# Altium footprint library AD-FMComms3_revA.PcbLib: 27 footprints (part 2 of 2)
Each footprint in its own frame and in the unit in brackets; x right, y up, seen from the top. Pads: shape width x height; smd on the part's side, far side on the other; paste and mask are expansions set on the pad; w line width, h text height; cw(c..) or ccw(c..) is an arc to the next point about the centre after c.
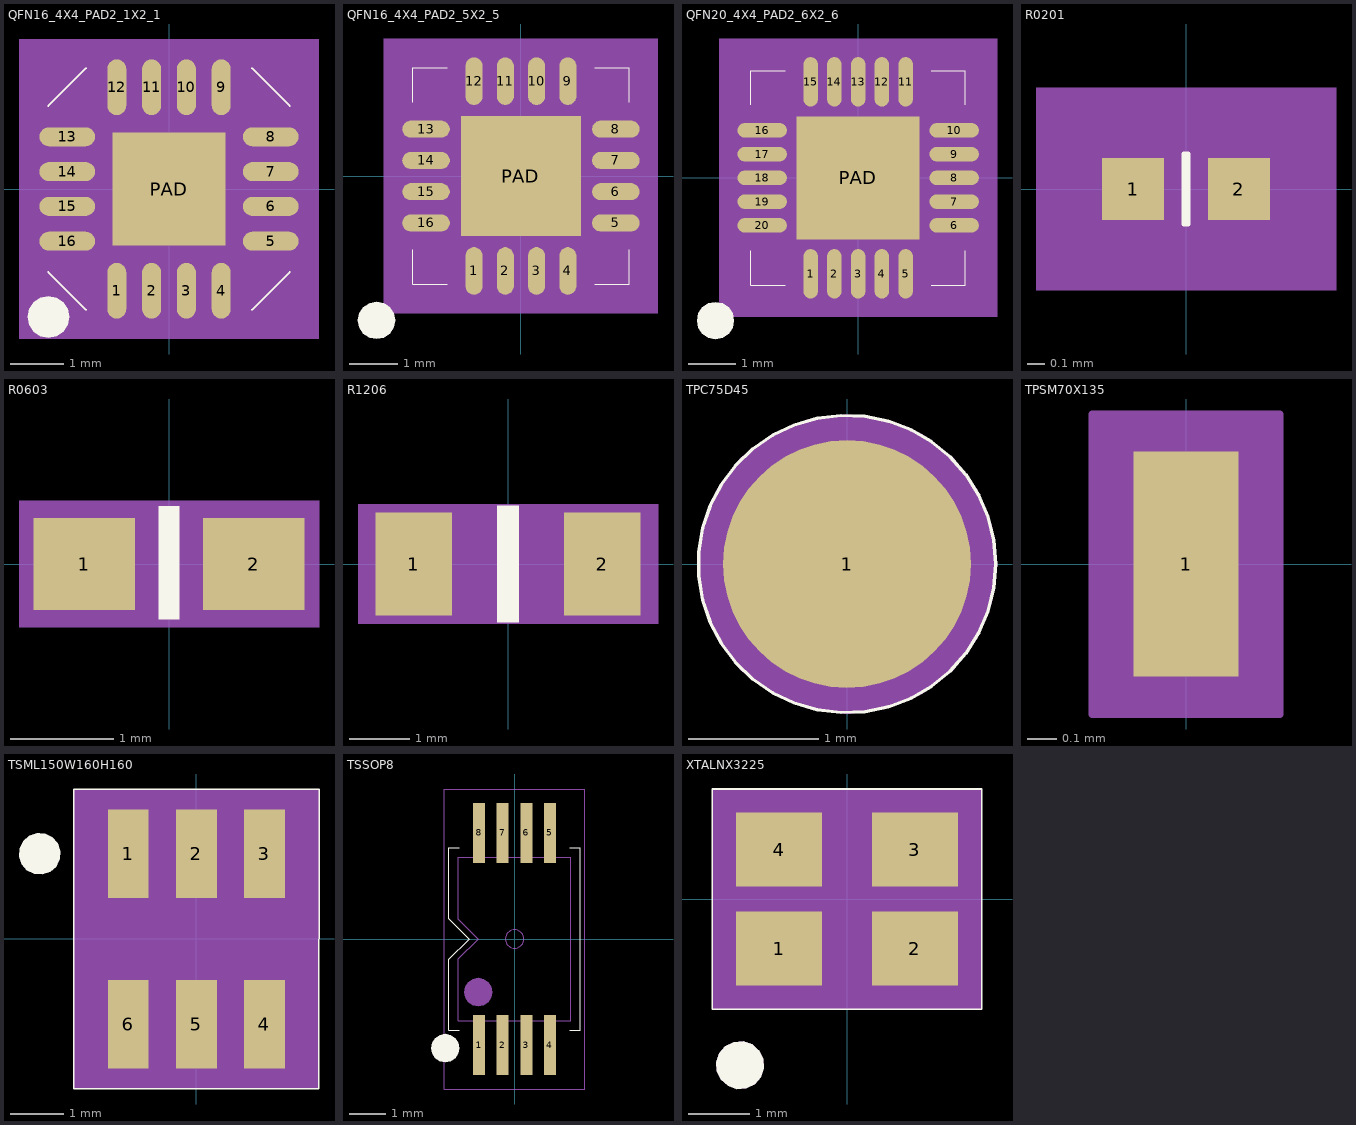
[diagram p1: the footprints below, top view; thin cyan lines are the x and y axes]

## QFN16_4X4_PAD2_1X2_1 [mil] "QFN16_4X4_PAD2_1X2_1"
pads (17):
  oval 14x41 smd: 1(-38.39,-74.8) 2(-12.8,-74.8) 3(12.8,-74.8) 4(38.39,-74.8) 9(38.39,74.8) 10(12.8,74.8) 11(-12.8,74.8) 12(-38.39,74.8)
  oval 41x14 smd: 5(74.8,-38.39) 6(74.8,-12.8) 7(74.8,12.8) 8(74.8,38.39) 13(-74.8,38.39) 14(-74.8,12.8) 15(-74.8,-12.8) 16(-74.8,-38.39)
  rect 83x83 smd: PAD(0,0)
Top Overlay:
  dashed: -88.74,-109.3 -82.89,-108.14 -77.93,-104.83 -74.62,-99.87 -73.45,-94.02 -74.62,-88.17 -75.73,-86.5 -77.93,-83.21 -82.89,-79.89 -88.74,-78.73 -94.59,-79.89 -99.55,-83.21 -101.75,-86.5 -102.86,-88.17 -104.03,-94.02 -102.86,-99.87 -99.55,-104.83 -94.59,-108.14
  lines w1: -88.74,-60.39 -88.74,-61.18 -61.18,-88.74 -60.39,-88.74 ; -88.74,60.39 -88.74,61.18 -61.18,88.74 -60.39,88.74 ; 60.39,-88.74 61.18,-88.74 88.74,-61.18 88.74,-60.39 ; 60.39,88.74 61.18,88.74 88.74,61.18 88.74,60.39
  text ".Designator" at 102.5,77.5 h25
Top 3D Body:
  region: -110.3,110.3 -110.3,-110.3 110.3,-110.3 110.3,110.3
Top Component Center:
  circle w1: c0,0 r10
Mechanical34:
  text "8" at 82.8,50.05 h25
  text "6" at 82.8,-1.13 h25
  text "PAD" at 30,51.67 h25
  text "5" at 82.8,-26.72 h25
  text "9" at 46.39,86.47 h25
  text "7" at 82.8,24.46 h25
  text "3" at 20.8,-63.14 h25
  text "15" at -74.8,-1.13 h25
  text "1" at -30.39,-63.14 h25
  text "2" at -4.8,-63.14 h25
  text "16" at -74.8,-26.72 h25
  text "4" at 46.39,-63.14 h25
  text "11" at 6.2,106.47 h25
  text "12" at -19.39,106.47 h25
  text "10" at 31.8,106.47 h25
  text "13" at -74.8,50.05 h25
  text "14" at -74.8,24.46 h25
Mechanical39:
  text "QFN16_4X4_PAD2_1X2_1" at 0,609.71 h50
  text "83X83_SM2X2" at 0,-52.57 h50
  text "OB14X41_SM2X2" at 0,66.17 h50
Top Assembly:
  dashed: -39.37,-74.34 -33.52,-73.18 -28.56,-69.87 -25.25,-64.91 -24.08,-59.06 -25.25,-53.2 -26.36,-51.54 -28.56,-48.24 -33.52,-44.93 -39.37,-43.77 -45.22,-44.93 -50.18,-48.24 -52.38,-51.54 -53.49,-53.2 -54.66,-59.06 -53.49,-64.91 -50.18,-69.87 -45.22,-73.18
  lines w1: -78.74,-55.12 -78.74,55.12 -55.12,78.74 55.12,78.74 78.74,55.12 78.74,-55.12 55.12,-78.74 -55.12,-78.74 -78.74,-55.12
  text "UPN" at 67.39,30 h25
  text "ADP1755ACPZ" at -11.35,110 h25
Top Component Outline:
  text "16NOV11" at 354.82,86.8 h31
  text "QA/RGS" at 315.45,74.4 h31
  text "24SEP09" at 276.08,86.8 h31
  text "QA/REP" at 236.71,74.4 h31
  text "06FEB08" at 197.34,86.8 h31
  text "QA/SSD" at 157.97,74.4 h31
  text "05FEB08" at -127.46,86.8 h31
  text "ADI/GMC" at -166.83,86.8 h31
Mechanical43:
  lines w1: -105.3,-105.3 105.3,-105.3 105.3,105.3 -105.3,105.3 -105.3,-105.3
Mechanical44:
  dashed: -105.3,-105.3 105.3,-105.3 105.3,105.3 -105.3,105.3
Mechanical45:
  text "IS TO BE DETERMINED BY THE RESPONSIBLE ENGINEER AND THE LAYOUT PERSON." at 0,219.22 h25
  text "THE SIZE OF THE VIA BUMPS,QUANTITY AND THE LOCATION ON THE PADDLE PAD" at 0,248.59 h25
  text "TO CONVERT THIS NON-BUMPED FOOTPRINT SYMBOL TO A BUMPED VERSION;" at 0,316.7 h25
  text "REPLACE 83X83_SM2X2.PAD WITH 83X83_SM2X2_BUMP.PAD" at 0,87.96 h25
  text "REPLACE OB14X41_SM2X2.PAD WITH OB14X41_SM2X2_BUMP.PAD" at 0,167.33 h25
3D body: height 150, standoff 0, extent -110.3,-110.3 110.3,110.3

## QFN16_4X4_PAD2_5X2_5 [mil] "QFN16_4X4_PAD2_5X2_5"
pads (17):
  oval 14x39 smd: 1(-38.39,-77.72) 2(-12.8,-77.72) 3(12.8,-77.72) 4(38.39,-77.72) 9(38.39,77.72) 10(12.8,77.72) 11(-12.8,77.72) 12(-38.39,77.72)
  oval 39x14 smd: 5(77.72,-38.39) 6(77.72,-12.8) 7(77.72,12.8) 8(77.72,38.39) 13(-77.72,38.39) 14(-77.72,12.8) 15(-77.72,-12.8) 16(-77.72,-38.39)
  rect 98x98 smd: PAD(0,0)
Top Overlay:
  dashed: -133.4,-118.11 -132.24,-123.96 -128.92,-128.92 -123.96,-132.24 -118.11,-133.4 -112.26,-132.24 -110.59,-131.13 -107.3,-128.92 -103.98,-123.96 -102.82,-118.11 -103.98,-112.26 -107.3,-107.3 -110.59,-105.09 -112.26,-103.98 -118.11,-102.82 -123.96,-103.98 -128.92,-107.3 -132.24,-112.26
  lines w1: -88.74,-60.39 -88.74,-88.74 -60.39,-88.74 ; -88.74,60.39 -88.74,88.74 -60.39,88.74 ; 60.39,-88.74 88.74,-88.74 88.74,-60.39 ; 60.39,88.74 88.74,88.74 88.74,60.39
  text ".Designator" at -25,-112.5 h25
Top 3D Body:
  region: -112.22,112.22 -112.22,-112.22 112.22,-112.22 112.22,112.22
Top Component Center:
  circle w1: c0,0 r10
Mechanical34:
  text "2" at 15.54,-69.72 h25
  text "5" at 105.72,-46.72 h25
  text "6" at 105.72,-21.13 h25
  text "7" at 105.72,4.46 h25
  text "8" at 105.72,30.05 h25
  text "PAD" at 90,-8.33 h25
  text "15" at -57.72,-21.13 h25
  text "16" at -57.72,-46.72 h25
  text "4" at 66.72,-69.72 h25
  text "9" at 66.72,85.72 h25
  text "10" at 61.13,96.72 h25
  text "11" at 35.54,96.72 h25
  text "1" at -10.05,-69.72 h25
  text "3" at 41.13,-69.72 h25
  text "14" at -57.72,4.46 h25
  text "13" at -57.72,30.05 h25
  text "12" at 9.95,96.72 h25
Mechanical39:
  text "QFN16_4X4_PAD2_5X2_5" at 400,209.71 h50
  text "98X98_SM2X2" at 220,-272.57 h50
  text "OB14X39_SM2X2" at 260,-193.83 h50
Top Assembly:
  dashed: -64.51,-59.06 -63.35,-64.91 -60.03,-69.87 -55.07,-73.19 -49.21,-74.36 -43.36,-73.19 -41.69,-72.08 -38.39,-69.87 -35.08,-64.91 -33.91,-59.06 -35.08,-53.2 -38.39,-48.24 -41.69,-46.03 -43.36,-44.92 -49.21,-43.75 -55.07,-44.92 -60.03,-48.24 -63.35,-53.2
  lines w1: -78.74,-78.74 -78.74,78.74 78.74,78.74 78.74,-78.74 -78.74,-78.74
  text "UPN" at 102.31,0 h25
  text "ADP2164ACPZ" at 105.54,0 h25
Top Component Outline:
  text "25NOV11" at 441.62,0 h31
  text "QA/RGS" at 389.85,0 h31
  text "24SEP09" at 362.88,0 h31
  text "QA/REP" at 311.11,0 h31
  text "31MAR08" at 284.14,0 h31
  text "QA/EMY" at 232.37,0 h31
  text "28MAR08" at -40.66,0 h31
  text "ADI/GMC" at -80.03,0 h31
Mechanical43:
  lines w1: -107.22,-107.22 107.22,-107.22 107.22,107.22 -107.22,107.22 -107.22,-107.22
Mechanical44:
  dashed: -107.22,107.22 -107.22,-107.22 107.22,-107.22 107.22,107.22
Mechanical45:
  text "IS TO BE DETERMINED BY THE RESPONSIBLE ENGINEER AND THE LAYOUT PERSON." at 700,-480.78 h25
  text "THE SIZE OF THE VIA BUMPS,QUANTITY AND THE LOCATION ON THE PADDLE PAD" at 690,-441.41 h25
  text "TO CONVERT THIS NON-BUMPED FOOTPRINT SYMBOL TO A BUMPED VERSION;" at 640,-323.3 h25
  text "REPLACE 98X98_SM2X2.PAD WITH 98X98_SM2X2_BUMP.PAD" at 490,-402.04 h25
  text "REPLACE OB14X39_SM2X2.PAD WITH OB14X39_SM2X2_BUMP.PAD" at 530,-362.67 h25
3D body: height 150, standoff 0, extent -112.22,-112.22 112.22,112.22

## QFN20_4X4_PAD2_6X2_6 [mil] "QFN20_4X4_PAD2_6X2_6"
pads (21):
  oval 12x41 smd: 1(-39.37,-79.5) 2(-19.69,-79.5) 3(0,-79.5) 4(19.69,-79.5) 5(39.37,-79.5) 11(39.37,79.5) 12(19.69,79.5) 13(0,79.5) 14(-19.69,79.5) 15(-39.37,79.5)
  oval 41x12 smd: 6(79.5,-39.37) 7(79.5,-19.69) 8(79.5,0) 9(79.5,19.69) 10(79.5,39.37) 16(-79.5,39.37) 17(-79.5,19.69) 18(-79.5,0) 19(-79.5,-19.69) 20(-79.5,-39.37)
  rect 102x102 smd: PAD(0,0)
Top Overlay:
  dashed: -102.82,-118.11 -103.98,-112.26 -107.3,-107.3 -112.26,-103.98 -118.11,-102.82 -123.96,-103.98 -125.63,-105.09 -128.92,-107.3 -132.24,-112.26 -133.4,-118.11 -132.24,-123.96 -128.92,-128.92 -125.63,-131.13 -123.96,-132.24 -118.11,-133.4 -112.26,-132.24 -107.3,-128.92 -103.98,-123.96
  lines w1: -88.74,-60.37 -88.74,-88.74 -60.37,-88.74 ; -88.74,60.37 -88.74,88.74 -60.37,88.74 ; 60.37,-88.74 88.74,-88.74 88.74,-60.37 ; 60.37,88.74 88.74,88.74 88.74,60.37
Top 3D Body:
  region: -115,115 -115,-115 115,-115 115,115
Top Component Center:
  circle w1: c0,0 r10
Mechanical34:
  text "7" at 67.5,-28.02 h25
  text "3" at -11.67,-71.5 h25
  text "2" at -31.35,-71.5 h25
  text "1" at -51.04,-71.5 h25
  text "20" at -99.5,-47.7 h25
  text "19" at -99.5,-28.02 h25
  text "18" at -99.5,-8.33 h25
  text "8" at 67.5,-8.33 h25
  text "14" at -51.35,98.5 h25
  text "15" at -71.04,98.5 h25
  text "13" at -31.67,98.5 h25
  text "11" at 7.7,98.5 h25
  text "10" at 58.5,31.04 h25
  text "17" at -99.5,11.35 h25
  text "16" at -99.5,31.04 h25
  text "5" at 27.7,-71.5 h25
  text "PAD" at -30,-8.33 h25
  text "9" at 67.5,11.35 h25
  text "6" at 67.5,-47.7 h25
  text "4" at 8.02,-71.5 h25
  text "12" at -11.98,98.5 h25
Mechanical39:
  text "102X102_SM2X2" at -260,-193.83 h50
  text "OB12X41_SM1X2" at -260,-262.73 h50
  text "QFN20_4X4_PAD2_6X2_6" at -400,209.71 h50
Top Assembly:
  dashed: -33.92,-59.06 -35.08,-53.2 -38.4,-48.24 -43.36,-44.92 -49.21,-43.76 -55.07,-44.92 -56.73,-46.03 -60.03,-48.24 -63.34,-53.2 -64.51,-59.06 -63.34,-64.91 -60.03,-69.87 -56.73,-72.08 -55.07,-73.19 -49.21,-74.35 -43.36,-73.19 -38.4,-69.87 -35.08,-64.91
  lines w1: -78.74,-78.74 78.74,-78.74 78.74,78.74 -78.74,78.74 -78.74,-78.74
  text "UPN" at 37.39,0 h25
  text "AD7291BCPZ" at -111.35,0 h25
  text ".Designator" at -49.6,-25 h31
Top Component Outline:
  text "14MAY09" at 120.39,0 h31
  text "QA/RGS" at 93.41,0 h31
  text "13MAY09" at -224.1,0 h31
  text "ADI/REP" at -263.47,0 h31
  text "0A/REP" at 172.16,0 h31
  text "24SEP09" at 199.13,0 h31
  text "QA/RGS" at 250.9,0 h31
  text "14DEC11" at 277.87,0 h31
Mechanical43:
  lines w1: -110,-110 -110,110 110,110 110,-110 -110,-110
Mechanical44:
  dashed: -110,110 -110,-110 110,-110 110,110
Mechanical45:
  text "REPLACE OB12X41_SM1X2.PAD WITH OB12X41_SM1X2_BUMP.PAD" at -530,-352.82 h25
  text "REPLACE 102X102_SM2X2.PAD WITH 102X102_SM2X2_BUMP.PAD" at -530,-392.19 h25
  text "TO CONVERT THIS NON-BUMPED FOOTPRINT SYMBOL TO A BUMPED VERSION;" at -640,-313.45 h25
  text "THE SIZE OF THE VIA BUMPS,QUANTITY AND THE LOCATION ON THE PADDLE PAD" at -690,-431.56 h25
  text "IS TO BE DETERMINED BY THE RESPONSIBLE ENGINEER AND THE LAYOUT PERSON." at -700,-470.93 h25
3D body: height 150, standoff 0, extent -115,-115 115,115

## R0201 [mil] "R0201"
pads (2):
  rect 14x14 smd: 1(-12,0) 2(12,0)
Top Overlay:
  lines w1: -0.5,-8 0.5,-8 0.5,8 -0.5,8 -0.5,-8
  text ".Designator" at 31.75,-9.41 h25
Top 3D Body:
  region: -34,-23 34,-23 34,23 -34,23
Top Component Center:
  circle w1: c0,0 r10
Mechanical34:
  text "2" at 2,0 h25
  text "1" at -22,0 h25
Mechanical39:
  text "R0201" at -89,97 h50
  text "14X14" at -92.4,-124 h50
Top Assembly:
  lines w1: -12,-6 -12,6 12,6 12,-6 -12,-6
  text "1" at -20.2,0 h25
  text "1" at 25,0 h25
  text "UPN" at 35,0 h25
Top Component Outline:
  text "ADI/DML" at -246.8,0 h31
  text "10XXX09" at 98.2,0 h31
  text "26JAN09" at -201.8,0 h31
  text "QA/XXX" at 70.6,0 h31
3D body: height 150, standoff 0, extent -34,-23 34,23

## R0603 [mil] "R0603"
pads (2):
  rect 38.5x35 smd: 1(-32.25,0) 2(32.25,0)
Top Overlay:
  dashed: -3.94,-21 -3.94,22 3.94,22 3.94,-21
  text ".Designator" at -180.7,15.8 h31
Top 3D Body:
  region: -57,-24 57,-24 57,24 -57,24
Top Component Center:
  circle w1: c0,0 r10
Mechanical34:
  text "2" at 22.25,0 h25
  text "1" at -42.25,0 h25
Mechanical39:
  text "R0603a" at -125,95 h50
  text "38.5x35x26" at -100,-130 h25
Top Assembly:
  lines w1: -35,-18.5 35,-18.5 35,18.5 -35,18.5 -35,-18.5
  text "237" at -28,-11 h25
  text "1" at -80,0 h25
  text "UPN" at 94,-1 h25
3D body: height 150, standoff 0, extent -57,-24 57,24

## R1206 [mil] "R1206"
pads (2):
  rect 50x67 smd: 1(-61.5,0) 2(61.5,0)
Top Overlay:
  dashed: -7,38 -7,-38 7,-38 7,38
Top 3D Body:
  region: -98,39 98,39 98,-39 -98,-39
Top Component Center:
  circle w1: c0,0 r10
Mechanical34:
  text "1" at -61.5,10 h25
  text "2" at 61.5,10 h25
Mechanical39:
  text "50x67x73" at 0,-20.8 h31
  text "1206a" at 0,225 h50
Top Assembly:
  lines w1: -65,-35 -65,35 65,35 65,-35 -65,-35
  text "UPN" at 60,30 h25
  text "0" at 25,15 h25
  text "0" at -10,15 h25
  text ".Designator" at 5.5,34.6 h31
3D body: height 150, standoff 0, extent -98,-39 98,39

## TPC75D45 [mil] "TPC75D45"
pads (1):
  round 75 smd: 1(0,0)
Top Overlay:
  circle w1: c0,0 r45
Top 3D Body:
  region: 45.39,0 43.84,-11.75 39.31,-22.69 32.09,-32.09 22.69,-39.31 11.75,-43.84 0,-45.39 -11.75,-43.84 -22.69,-39.31 -32.09,-32.09 -39.31,-22.69 -43.84,-11.75 -45.39,0 -43.84,11.75 -39.31,22.69 -32.09,32.09 -22.69,39.31 -11.75,43.84 0,45.39 11.75,43.84 22.69,39.31 32.09,32.09 39.31,22.69 43.84,11.75
Top Component Center:
  circle w1: c0,0 r10
Mechanical34:
  text "1" at -10,0 h25
Mechanical39:
  text "TPC75D45" at -160,-100 h50
  text "C75D45" at -120,100 h50
Top Assembly:
  text "WP45" at -15,0 h25
  text "UPN" at -130,0 h25
Top Component Outline:
  text "26APR99" at -236.8,0 h31
  text "CEXI/BTC" at 50.8,0 h31
  text "26APR99" at 13.2,0 h31
  text "ADI/PMA" at -186.8,0 h31
  text "ADI/MAM" at -276.8,0 h31
  text "17DEC09" at -326.8,0 h31
3D body: height 150, standoff 0, extent -45.39,-45.39 45.39,45.39

## TPSM70X135 [mil] "TPSM70X135"
pads (1):
  rect 14x30 smd: 1(0,0)
Top 3D Body:
  region: 12.5,20 -12.5,20 -12.5,-20 12.5,-20
Top Component Center:
  circle w1: c0,0 r10
Mechanical34:
  text "1" at -10,0 h25
Mechanical39:
  text "14X30" at -92.5,165.6 h50
  text "TPSM70X135" at -208.4,-145.6 h50
Top Assembly:
  lines w1: -12.5,-20 12.5,-20 12.5,20 -12.5,20 -12.5,-20
  text "UPN" at -69.7,-52.7 h25
  text "TP-108" at -41.2,41.3 h25
Top Component Outline:
  text "DDMMMYY" at -223.6,0.7 h31
  text "QA/XXX" at -174.4,0 h31
  text "QA/XXX" at -261.3,5.5 h31
  text "02AUG13" at 13.2,0 h31
  text "ADI/JDB" at 63.2,0 h31
  text "DDMMMYY" at -310,6.2 h31
3D body: height 150, standoff 0, extent -12.5,-20 12.5,20

## TSML150W160H160 [mil] "TSML150W160H160"
pads (6):
  rect 30x65.01 smd: 1(-50,62.5) 2(0,62.5) 3(50,62.5) 4(50,-62.5) 5(0,-62.5) 6(-50,-62.5)
Top Overlay:
  dashed: -128.24,54.85 -130.16,60.5 -129.77,66.46 -127.13,71.81 -122.65,75.74 -117,77.66 -115,77.53 -111.04,77.27 -105.69,74.63 -101.76,70.15 -99.84,64.5 -100.23,58.54 -101.98,54.99 -102.87,53.19 -107.35,49.26 -113,47.34 -118.96,47.73 -124.31,50.37
  lines w1: -90.01,-110 90,-110 90.01,110 -90,110 -90.01,-110
Top 3D Body:
  region: -90.01,-110 -90.01,110 89.99,110 89.99,-110
Top Component Center:
  circle w1: c0,0 r10
Mechanical34:
  text "4" at 58.66,-57.5 h25
  text "6" at -41.34,-57.5 h25
  text "3" at 58.66,67.5 h25
  text "1" at -41.34,67.5 h25
  text "2" at 8.66,67.49 h25
  text "5" at 8.66,-57.49 h25
Mechanical39:
  text "30X65" at 86.61,-124.99 h50
  text "TSML150W160H160" at 259.81,350 h50
Top Assembly:
  dashed: -63.24,54.85 -65.16,60.5 -64.77,66.46 -62.13,71.81 -57.65,75.74 -52,77.66 -50,77.53 -46.04,77.27 -40.69,74.63 -36.76,70.15 -34.84,64.5 -35.23,58.54 -36.98,54.98 -37.87,53.19 -42.35,49.26 -48,47.34 -53.96,47.73 -59.31,50.37
  lines w1: -75,-80 75.01,-80 75,80 -75.01,80 -75,-80
  text ".Designator" at 42.95,-0.2 h31
  text "TCM1-63AX+" at 61.6,50 h25
  text "UPN" at 100.98,15 h25
Top Component Outline:
  text "ADI/JSM" at -124.83,43.4 h31
  text "04SEP12" at -74.83,43.4 h31
  text "QA/REP" at 239.42,37.21 h31
  text "04SEP12" at 300.17,43.4 h31
3D body: height 150, standoff 0, extent -90.01,-110 89.99,110

## TSSOP8 [mil] "TSSOP8"
pads (8):
  rect 13x65 smd: 1(-38.39,-114.96) 2(-12.8,-114.96) 3(12.8,-114.96) 4(38.39,-114.96) 5(38.39,114.96) 6(12.8,114.96) 7(-12.8,114.96) 8(-38.39,114.96)
Top Overlay:
  dashed: -59.61,-118.11 -60.77,-112.26 -64.08,-107.31 -69.04,-103.99 -74.89,-102.83 -80.73,-103.99 -82.39,-105.1 -85.69,-107.31 -89,-112.26 -90.17,-118.11 -89,-123.96 -85.69,-128.91 -82.39,-131.12 -80.73,-132.23 -74.89,-133.39 -69.04,-132.23 -64.08,-128.91 -60.77,-123.96
  lines w1: -59.89,-98.58 -71.02,-98.58 -71.02,-21.81 -49.21,0 -71.02,21.81 -71.02,98.58 -59.89,98.58 ; 59.89,-98.58 71.02,-98.58 71.02,98.58 59.89,98.58
  text ".Designator" at -132.1,100 h31
Top 3D Body:
  lines w1: -76.02,-162.46 76.02,-162.46 76.02,162.46 -76.02,162.46 -76.02,-162.46
Top Component Center:
  circle w1: c0,0 r10
Mechanical34:
  text "5" at 26.72,124.14 h25
  text "6" at 1.13,124.14 h25
  text "1" at -50.05,-108.14 h25
  text "2" at -24.46,-108.14 h25
  text "8" at -50.05,124.14 h25
  text "7" at -24.46,124.14 h25
  text "4" at 26.72,-108.14 h25
  text "3" at 1.13,-108.14 h25
Mechanical39:
  text "TSSOP8" at -120,229.4 h50
  text "65X13" at -100,-213.52 h50
Top Assembly:
  dashed: -24.08,-57.46 -25.24,-51.61 -28.56,-46.65 -33.52,-43.33 -39.37,-42.17 -45.22,-43.33 -46.89,-44.44 -50.18,-46.65 -53.5,-51.61 -54.66,-57.46 -53.5,-63.31 -50.18,-68.28 -46.89,-70.48 -45.22,-71.59 -39.37,-72.75 -33.52,-71.59 -28.56,-68.28 -25.24,-63.31
  lines w1: -61.02,-88.58 61.02,-88.58 61.02,88.58 -61.02,88.58 -61.02,21.65 -39.37,0 -61.02,-21.65 -61.02,-88.58
  text "M24C02-WDW6TP" at -141.35,0 h25
  text "UPN" at 37.39,0 h25
Top Component Outline:
  text "14JUN02" at -174.89,0 h31
  text "ADI/RRH" at -214.26,0 h31
  text "QA/PMA" at 44.2,0 h31
  text "14JUN02" at 71.17,0 h31
  text "QA/RGS" at 142.63,0 h31
  text "28SEP10" at 169.6,0 h31

## XTALNX3225 [mil] "XTALNX3225"
pads (4):
  rect 55.01x47 smd: 1(-43.32,-31.51) 2(43.3,-31.51) 3(43.3,31.5) 4(-43.32,31.5)
Top Overlay:
  dashed: -64.18,-120.63 -58.83,-117.99 -54.89,-113.5 -52.97,-107.85 -53.36,-101.89 -56,-96.54 -57.51,-95.22 -60.49,-92.6 -66.14,-90.68 -72.1,-91.07 -77.45,-93.71 -81.39,-98.2 -82.66,-101.96 -83.31,-103.85 -82.92,-109.81 -80.28,-115.16 -75.79,-119.1 -70.14,-121.02
  lines w1: -85.88,-70.13 85.87,-70.13 85.86,70.12 -85.89,70.12 -85.88,-70.13
  text ".Designator" at 74.04,64.55 h50
Top 3D Body:
  region: -85.88,-70.13 85.87,-70.13 85.86,70.11 -85.87,70.11
Top Component Center:
  circle w1: c-0.01,0 r10
Mechanical34:
  text "3" at 40.71,41.16 h25
  text "1" at -45.91,-21.85 h25
  text "2" at 40.71,-21.85 h25
  text "4" at -45.91,41.16 h25
Mechanical39:
  text "55X47" at -25.9,-130.43 h50
  text "XTALNX3225" at -51.77,386.87 h50
Top Assembly:
  dashed: -64.19,-120.62 -58.84,-117.98 -54.9,-113.49 -52.99,-107.84 -53.38,-101.89 -56.01,-96.54 -57.52,-95.22 -60.5,-92.61 -66.15,-90.69 -72.1,-91.08 -77.45,-93.72 -81.38,-98.2 -82.66,-101.96 -83.3,-103.85 -82.91,-109.81 -80.27,-115.16 -75.79,-119.09 -70.14,-121.01
  lines w1: -73.79,9.84 -73.4,9.84 ; -73.44,-9.84 -73.4,-9.84 ; -63,-49.21 62.98,-49.22 62.98,49.21 -63,49.21 -63,-49.21
  text "40.000000MEGHZ" at -47.59,135.23 h25
  text "UPN" at 59.61,28.98 h25
Top Component Outline:
  text "ADI/GMC" at -210.5,90.05 h31
  text "29NOV07" at -165.81,89.24 h31
  text "QA/JSM" at 150.18,74.89 h31
  text "29NOV07" at 197.35,86.06 h31
3D body: height 150, standoff 0, extent -85.88,-70.13 85.87,70.11